# Altium schematic symbol library Schlib2.SchLib: 92 symbols (part 2 of 4)
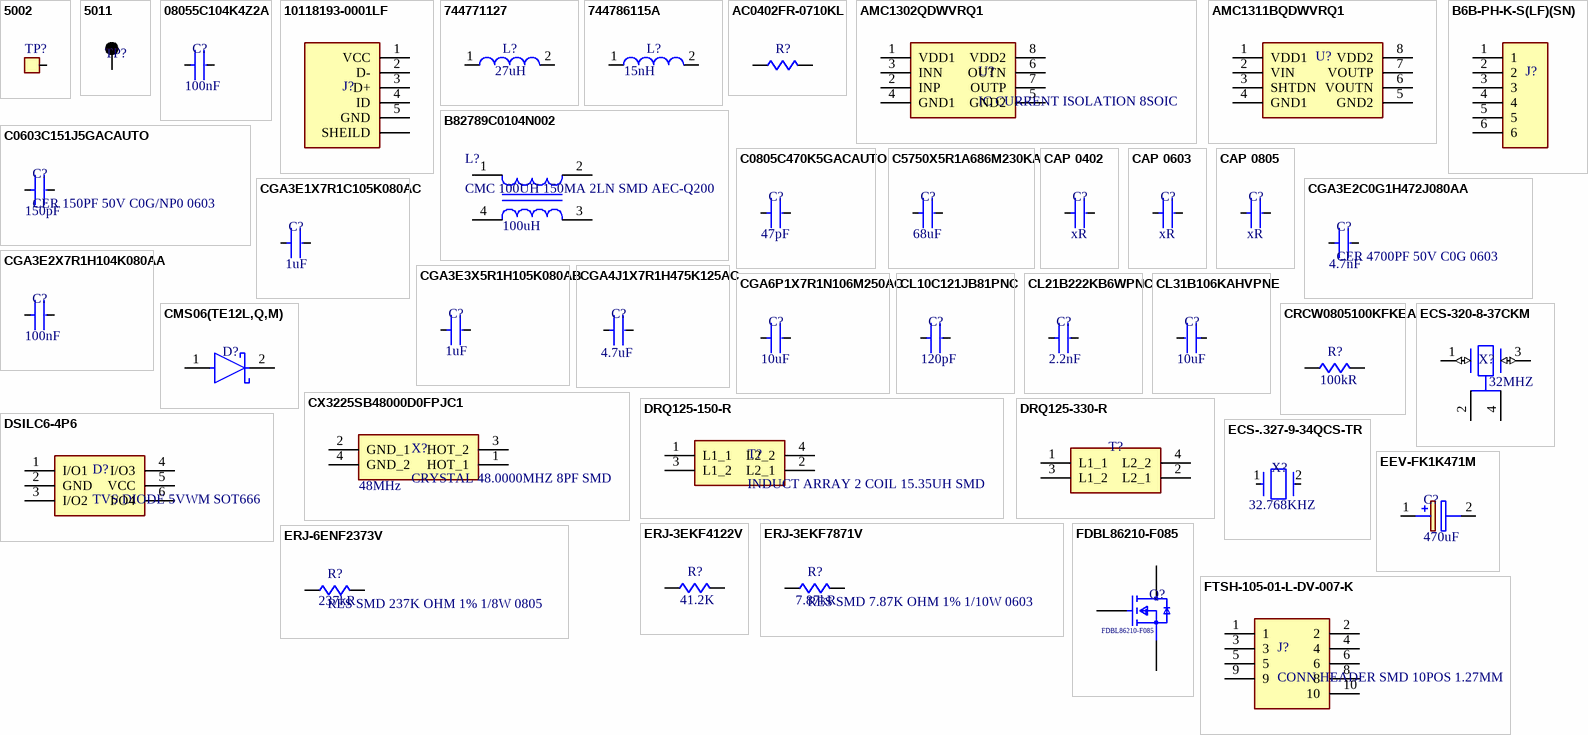
[diagram p3: symbols 5002 to FTSH-105-01-L-DV-007-K]

## DRQ125-330-R
designator T?, comment INDUCT ARRAY 2 COIL 33.74UH SMD  (value not drawn)
General Purpose Inductor; Manufacturer: Eaton Bussmann; Manufacturer Part Number: DRQ125-330-R; Manufacturer Series: DRQ; Supplier: Digi-Key; Supplier Part Number: 513-1292-1-ND; RoHS: No; Category: Fixed Inductors; Stock: 6739; Pricing: 1=1.55, 10=1.441, 25=1.33, 50=1.1084, 100=1.042, 250=0.93112 (USD); Inductor Type: GENERAL PURPOSE INDUCTOR; ComponentLink1URL: https://datasheet.ciiva.com:443/pdfs/VipMasterIC/IC/COIL/COIL-S-A0000009042/COIL-S-A0000009042-1.pdf?src-supplier=IHS+Markit; ComponentLink1Description: https://datasheet.ciiva.com:443/pdfs/VipMasterIC/IC/COIL/COIL-S-A0000009042/COIL-S-A0000009042-1.pdf?src-supplier=IHS+Markit; ComponentLink2URL: https://datasheet.ciiva.com/30154/89bus-elx-ds-4311-drq-se-30154698.pdf?src-supplier=Onlinecomponents.com; ComponentLink2Description: https://datasheet.ciiva.com/30154/89bus-elx-ds-4311-drq-se-30154698.pdf?src-supplier=Onlinecomponents.com; ComponentLink3URL: https://datasheet.ciiva.com/16291/bus-elx-ds-4311-drq-series-16291487.pdf?src-supplier=Future+Electronics; ComponentLink3Description: https://datasheet.ciiva.com/16291/bus-elx-ds-4311-drq-series-16291487.pdf?src-supplier=Future+Electronics; ComponentLink4URL: https://datasheet.ciiva.com/17113/70037884-17113355.pdf?src-supplier=Allied+Electronics; ComponentLink4Description: https://datasheet.ciiva.com/17113/70037884-17113355.pdf?src-supplier=Allied+Electronics; ComponentLink5URL: https://datasheet.ciiva.com/16291/bus-elx-ds-4311-drq-series-16291484.pdf?src-supplier=Future+Electronics; ComponentLink5Description: https://datasheet.ciiva.com/16291/bus-elx-ds-4311-drq-series-16291484.pdf?src-supplier=Future+Electronics; ComponentLink6URL: https://datasheet.ciiva.com/30234/89bus-elx-ds-4311-drq-se-30234907.pdf?src-supplier=Onlinecomponents.com; ComponentLink6Description: https://datasheet.ciiva.com/30234/89bus-elx-ds-4311-drq-se-30234907.pdf?src-supplier=Onlinecomponents.com; ComponentLink7URL: https://datasheet.ciiva.com/17113/70037884-17113358.pdf?src-supplier=Allied+Electronics; ComponentLink7Description: https://datasheet.ciiva.com/17113/70037884-17113358.pdf?src-supplier=Allied+Electronics
footprint DRQ125330R
pins: 1 L1_1, 2 L2_1, 3 L1_2, 4 L2_2

## DSILC6-4P6
designator D?, comment TVS DIODE 5VWM SOT666
Manufacturer: STMicroelectronics; Manufacturer Part Number: DSILC6-4P6; Direction: Unidirectional; Value: 2.5pF; Operating Supply Voltage: 5V; Max Surge Current: 7A; Reverse Breakdown Voltage: 6V; Number of Elements: 1; Number of Channels: 4; Peak Pulse Power: 120W; Power Line Protection: Yes; Leakage Current: 500nA; Test Current: 1mA; Peak Pulse Current: 5A; Max Power Dissipation: 90W; Supplier: Digi-Key; Supplier Part Number: 497-5544-1-ND; RoHS: Yes; Category: TVS Diodes; Stock: 53924; Pricing: 1=0.95, 10=0.849, 100=0.6621, 500=0.54698, 1000=0.43183 (USD); Mounting Technology: Surface Mount; Case/Package: SOT-666; Pins: 6; Min Operating Temperature: -55°C; Max Operating Temperature: 125°C; Package Quantity: 3000; Packaging: Tape and Reel; Reverse Standoff Voltage: 5V; Min Breakdown Voltage: 6V; Polarity: Unidirectional; Breakdown Voltage: 6V; Termination: SMD/SMT; ESD Protection: Yes; Max Reverse Leakage Current: 500nA; Max Breakdown Voltage: 6V; Voltage Rating (DC): 6V; Power Rating: 120W; Series: DSI; Number of Unidirectional Channels: 4; Length: 1.7mm; Width: 1.3mm; Height: 0.6mm; Depth: 1.3mm; Radiation Hardening: No; Reach SVHC Compliant: No; Lead Free: Lead Free; RoHS Compliant: Yes; ComponentLink1URL: https://datasheet.ciiva.com/4511/cd00130230-99038-4511753.pdf?src-supplier=Mouser; ComponentLink1Description: https://datasheet.ciiva.com/4511/cd00130230-99038-4511753.pdf?src-supplier=Mouser; ComponentLink2URL: https://datasheet.ciiva.com/15143/getdatasheetpartid-65137-15143194.pdf?src-supplier=Verical; ComponentLink2Description: https://datasheet.ciiva.com/15143/getdatasheetpartid-65137-15143194.pdf?src-supplier=Verical; ComponentLink3URL: https://datasheet.ciiva.com/338/cd00130230-338497.pdf?src-supplier=Digi-Key; ComponentLink3Description: https://datasheet.ciiva.com/338/cd00130230-338497.pdf?src-supplier=Digi-Key; ComponentLink4URL: https://datasheet.ciiva.com/338/cd00130230-338496.pdf?src-supplier=Digi-Key; ComponentLink4Description: https://datasheet.ciiva.com/338/cd00130230-338496.pdf?src-supplier=Digi-Key; ComponentLink5URL: https://datasheet.ciiva.com/338/cd00130230-338498.pdf?src-supplier=Digi-Key; ComponentLink5Description: https://datasheet.ciiva.com/338/cd00130230-338498.pdf?src-supplier=Digi-Key; ComponentLink6URL: https://datasheet.ciiva.com/16495/cd00130230-16495053.pdf?src-supplier=Future+Electronics; ComponentLink6Description: https://datasheet.ciiva.com/16495/cd00130230-16495053.pdf?src-supplier=Future+Electronics
footprint SOTFL50P160X60-6N
footprint FP-SOT-666-MFG - duplicate
pins: 1 I/O1, 2 GND, 3 I/O2, 4 I/O3, 5 VCC, 6 I/O4

## ECS-320-8-37CKM
designator X?, comment value 32MHZ  (hidden comment: CRYSTAL 32.0000MHZ 8PF SMD)
Manufacturer: ECS International; Manufacturer Part Number: ECS-320-8-37CKM; Supplier: Digi-Key; Supplier Part Number: XC1547CT-ND; RoHS: Yes; Category: Crystals; Stock: 683720; Pricing: 1=0.92, 10=0.813, 50=0.76, 100=0.6716, 500=0.63624 (USD); ComponentLink1URL: https://datasheet.ciiva.com/854/ecx-1637-854098.pdf?src-supplier=Digi-Key; ComponentLink1Description: https://datasheet.ciiva.com/854/ecx-1637-854098.pdf?src-supplier=Digi-Key; ComponentLink2URL: https://datasheet.ciiva.com/854/ecx-1637-854099.pdf?src-supplier=Digi-Key; ComponentLink2Description: https://datasheet.ciiva.com/854/ecx-1637-854099.pdf?src-supplier=Digi-Key; ComponentLink3URL: https://datasheet.ciiva.com/854/ecx-1637-854100.pdf?src-supplier=Digi-Key; ComponentLink3Description: https://datasheet.ciiva.com/854/ecx-1637-854100.pdf?src-supplier=Digi-Key
footprint FP-ECS-320-8-37CKM-MFG
pins: 1 In/Out (io), 2 Gnd (power), 3 Out/In (io), 4 Gnd (power)

## ECS-.327-9-34QCS-TR
designator X?  value 32.768KHZ  (hidden comment: ECS-.327-9-34QCS-TR)
CRYSTAL 32.768KHZ 9PF SMD; Manufacturer: ECS International; Supplier: Digi-Key; Supplier Part Number: XC2160CT-ND; Manufacturer Part Number: ECS-.327-9-34QCS-TR; RoHS: Yes; Category: Crystals; Stock: 10283; Pricing: 1=1.12, 10=0.99, 50=0.9252, 100=0.8175, 500=0.7745, 1000=0.64542 (USD); ComponentLink1URL: http://www.ecsxtal.com/store/pdf/partnumber4.pdf?src-supplier=Digi-Key; ComponentLink1Description: http://www.ecsxtal.com/store/pdf/partnumber4.pdf?src-supplier=Digi-Key; ComponentLink2URL: https://www.ecsxtal.com/store/pdf/ECX-34Q.pdf?src-supplier=Digi-Key; ComponentLink2Description: https://www.ecsxtal.com/store/pdf/ECX-34Q.pdf?src-supplier=Digi-Key
footprint FP-ECX-34Q-MFG
pins: 1 In/Out, 2 Out/In

## EEV-FK1K471M
designator C?, comment value 470uF  (hidden comment: CAP ALUM 470UF 20% 80V SMD)
Manufacturer: Panasonic; Manufacturer Part Number: EEV-FK1K471M; Dielectric Material: Aluminium; Polarity: Polarized; Leakage Current: 376uA; Ripple Current: 687.75mA; Tan Delta: 0.08; Reference Standard: AEC-Q200; Supplier: Digi-Key; Supplier Part Number: PCE3496CT-ND; RoHS: Yes; Category: Aluminum Electrolytic Capacitors; Stock: 7035; Pricing: 1=2.41, 10=1.947, 50=1.6988 (USD); Mounting Technology: Surface Mount; Pins: 2; Case/Package: 7575; Min Operating Temperature: -55°C; Max Operating Temperature: 105°C; Capacitor Type: Aluminium; Tolerance  (fill in as +-): 20%; Package Style: SMTMeter; Packaging: Tape and Reel; Tolerance (fill in as +-): 20%; Rated DC Voltage (URdc): 80V; Termination: Flat; Length: 21mm; Width: 19mm; Height: 16.5mm; Reach SVHC Compliant: Yes; RoHS Compliant: Yes; ComponentLink1URL: https://datasheet.ciiva.com:443/pdfs/VipMasterIC/IC/PANA/PANA-S-A0009782343/PANA-S-A0009782343-1.pdf?src-supplier=IHS+Markit; ComponentLink1Description: https://datasheet.ciiva.com:443/pdfs/VipMasterIC/IC/PANA/PANA-S-A0009782343/PANA-S-A0009782343-1.pdf?src-supplier=IHS+Markit; ComponentLink2URL: https://datasheet.ciiva.com/14606/70258115-14606333.pdf?src-supplier=Allied+Electronics; ComponentLink2Description: https://datasheet.ciiva.com/14606/70258115-14606333.pdf?src-supplier=Allied+Electronics; ComponentLink3URL: https://datasheet.ciiva.com/43485/1676921-43485532.pdf?src-supplier=Farnell; ComponentLink3Description: https://datasheet.ciiva.com/43485/1676921-43485532.pdf?src-supplier=Farnell; ComponentLink4URL: https://datasheet.ciiva.com/2984/aba0000ce120-2984088.pdf?src-supplier=Avnet; ComponentLink4Description: https://datasheet.ciiva.com/2984/aba0000ce120-2984088.pdf?src-supplier=Avnet; ComponentLink5URL: https://datasheet.ciiva.com/30158/eev-fkseries-30158795.pdf?src-supplier=Onlinecomponents.com; ComponentLink5Description: https://datasheet.ciiva.com/30158/eev-fkseries-30158795.pdf?src-supplier=Onlinecomponents.com; ComponentLink6URL: https://datasheet.ciiva.com/14603/70258115-14603897.pdf?src-supplier=Allied+Electronics; ComponentLink6Description: https://datasheet.ciiva.com/14603/70258115-14603897.pdf?src-supplier=Allied+Electronics; ComponentLink7URL: https://datasheet.ciiva.com/48483/aba0000ce120-48483340.pdf?src-supplier=Avnet; ComponentLink7Description: https://datasheet.ciiva.com/48483/aba0000ce120-48483340.pdf?src-supplier=Avnet
footprint EEEFK0J103SM
pins: 1 +, 2 -

## ERJ-3EKF4122V
designator R?, comment value 41.2K  (hidden comment: RES SMD 41.2K OHM 1% 1/10W 0603)
Manufacturer: Panasonic; Manufacturer Part Number: ERJ-3EKF4122V; Supplier: Digi-Key; Supplier Part Number: P41.2KHCT-ND; RoHS: Yes; Category: Chip SMD Resistors; Stock: 1049310; Pricing: 1=0.1, 10=0.046, 50=0.0256, 100=0.0188, 500=0.01148, 1000=0.00845 (USD); ComponentLink1URL: https://datasheet.ciiva.com/24025/aoa0000ce2-24025577.pdf?src-supplier=Mouser; ComponentLink1Description: https://datasheet.ciiva.com/24025/aoa0000ce2-24025577.pdf?src-supplier=Mouser; ComponentLink2URL: https://datasheet.ciiva.com/48531/aoa0000ce2-48531038.pdf?src-supplier=Avnet; ComponentLink2Description: https://datasheet.ciiva.com/48531/aoa0000ce2-48531038.pdf?src-supplier=Avnet; ComponentLink3URL: https://datasheet.ciiva.com/9117/aoa0000ce2-9117288.pdf?src-supplier=Avnet; ComponentLink3Description: https://datasheet.ciiva.com/9117/aoa0000ce2-9117288.pdf?src-supplier=Avnet; ComponentLink4URL: https://datasheet.ciiva.com/28672/1678782-28672360.pdf?src-supplier=Element14; ComponentLink4Description: https://datasheet.ciiva.com/28672/1678782-28672360.pdf?src-supplier=Element14; ComponentLink5URL: https://datasheet.ciiva.com/30231/aoa0000ce2-30231797.pdf?src-supplier=Onlinecomponents.com; ComponentLink5Description: https://datasheet.ciiva.com/30231/aoa0000ce2-30231797.pdf?src-supplier=Onlinecomponents.com; ComponentLink6URL: https://datasheet.ciiva.com/16788/70260748-16788157.pdf?src-supplier=Allied+Electronics; ComponentLink6Description: https://datasheet.ciiva.com/16788/70260748-16788157.pdf?src-supplier=Allied+Electronics
footprint FP-RMCF0603-IPC_C
pins: 1, 2

## ERJ-3EKF7871V
designator R?, comment RES SMD 7.87K OHM 1% 1/10W 0603  value 7.87kR
Manufacturer: Panasonic; Manufacturer Part Number: ERJ-3EKF7871V; Power: 100mW; Rated Temperature: 70°C; Temperature Coefficient: 100ppm/°C; Working Voltage: 75V; Package Height: 0.45mm; Package Length: 1.6mm; Package Width: 0.8mm; Reference Standard: AEC-Q200; Supplier: Digi-Key; Supplier Part Number: P7.87KHCT-ND; RoHS: Yes; Category: Chip SMD Resistors; Stock: 113983; Pricing: 1=0.1, 10=0.046, 50=0.0256, 100=0.0188, 500=0.01148, 1000=0.00845 (USD); Mounting Technology: Surface Mount; Pins: 2; Package Shape: Rectangular; Case/Package: 0603; Terminal Finish: Nickel; Min Operating Temperature: -55°C; Max Operating Temperature: 155°C; Tolerance: 1%; JESD-609 Code: e3; Resistor Type: FIXED RESISTOR; Construction: Rectangular; Package Style: SMTMeter; Packaging: Tape and Reel; Technology: METAL GLAZE/THICK FILM; Termination: Wraparound; Reach SVHC Compliant: Yes; RoHS Compliant: Yes; ComponentLink1URL: https://datasheet.ciiva.com:443/pdfs/VipMasterIC/IC/PANA/PANA-S-A0009889626/PANA-S-A0009889626-1.pdf?src-supplier=IHS+Markit; ComponentLink1Description: https://datasheet.ciiva.com:443/pdfs/VipMasterIC/IC/PANA/PANA-S-A0009889626/PANA-S-A0009889626-1.pdf?src-supplier=IHS+Markit; ComponentLink2URL: https://datasheet.ciiva.com/28563/1678782-28563593.pdf?src-supplier=Element14; ComponentLink2Description: https://datasheet.ciiva.com/28563/1678782-28563593.pdf?src-supplier=Element14; ComponentLink3URL: https://datasheet.ciiva.com/48531/aoa0000ce2-48531919.pdf?src-supplier=Avnet; ComponentLink3Description: https://datasheet.ciiva.com/48531/aoa0000ce2-48531919.pdf?src-supplier=Avnet; ComponentLink4URL: https://datasheet.ciiva.com/30170/aoa0000ce2-30170856.pdf?src-supplier=Onlinecomponents.com; ComponentLink4Description: https://datasheet.ciiva.com/30170/aoa0000ce2-30170856.pdf?src-supplier=Onlinecomponents.com; ComponentLink5URL: https://datasheet.ciiva.com/5974/426256-5974536.pdf?src-supplier=Farnell; ComponentLink5Description: https://datasheet.ciiva.com/5974/426256-5974536.pdf?src-supplier=Farnell; ComponentLink6URL: https://datasheet.ciiva.com/46377/426256-46377321.pdf?src-supplier=Element14; ComponentLink6Description: https://datasheet.ciiva.com/46377/426256-46377321.pdf?src-supplier=Element14; ComponentLink7URL: https://datasheet.ciiva.com/24164/aoa0000ce2-24164943.pdf?src-supplier=Mouser; ComponentLink7Description: https://datasheet.ciiva.com/24164/aoa0000ce2-24164943.pdf?src-supplier=Mouser; ComponentLink8URL: https://datasheet.ciiva.com/16759/70260748-16759401.pdf?src-supplier=Allied+Electronics; ComponentLink8Description: https://datasheet.ciiva.com/16759/70260748-16759401.pdf?src-supplier=Allied+Electronics; ComponentLink9URL: https://datasheet.ciiva.com/16759/70260748-16759767.pdf?src-supplier=Allied+Electronics; ComponentLink9Description: https://datasheet.ciiva.com/16759/70260748-16759767.pdf?src-supplier=Allied+Electronics; ComponentLink10URL: https://datasheet.ciiva.com/9117/aoa0000ce2-9117165.pdf?src-supplier=Avnet; ComponentLink10Description: https://datasheet.ciiva.com/9117/aoa0000ce2-9117165.pdf?src-supplier=Avnet
footprint FP-RMCF0603-IPC_C
pins: 1, 2

## ERJ-6ENF2373V
designator R?, comment RES SMD 237K OHM 1% 1/8W 0805  value 237kR
RES SMD 237K OHM 1% 1/8W 0805, Thick Film; Manufacturer: Panasonic; Manufacturer Part Number: ERJ-6ENF2373V; Power: 125mW; Rated Temperature: 70°C; Temperature Coefficient: 100ppm/°C; Working Voltage: 150V; Package Height: 0.6mm; Package Length: 2mm; Package Width: 1.25mm; Reference Standard: AEC-Q200; Dielectric Material: Ceramic; Multilayer: Yes; Tolerance  (fill in as +-): 10%; Rated DC Voltage (URdc): 50V; Temperature Characteristics Code: X7R; Supplier: Digi-Key; Supplier Part Number: P237KCCT-ND; RoHS: Yes; Category: Chip SMD Resistors; Stock: 18912; Pricing: 1=0.1, 10=0.086, 50=0.0462, 100=0.033, 500=0.02046, 1000=0.01452 (USD); Mounting Technology: Surface Mount; Pins: 2; Package Shape: Rectangular; Case/Package: 0805; Terminal Finish: Nickel; Min Operating Temperature: -55°C; Max Operating Temperature: 155°C; Tolerance: 1%; JESD-609 Code: e3; Resistor Type: FIXED RESISTOR; Construction: Rectangular; Package Style: SMTMeter; Packaging: Tape and Reel; Technology: METAL GLAZE/THICK FILM; Termination: Wraparound; Reach SVHC Compliant: Yes; RoHS Compliant: Yes; ComponentLink1URL: https://datasheet.ciiva.com:443/pdfs/VipMasterIC/IC/PANA/PANA-S-A0009889626/PANA-S-A0009889626-1.pdf?src-supplier=IHS+Markit; ComponentLink1Description: https://datasheet.ciiva.com:443/pdfs/VipMasterIC/IC/PANA/PANA-S-A0009889626/PANA-S-A0009889626-1.pdf?src-supplier=IHS+Markit; ComponentLink2URL: https://datasheet.ciiva.com/46420/1678782-46420316.pdf?src-supplier=Element14; ComponentLink2Description: https://datasheet.ciiva.com/46420/1678782-46420316.pdf?src-supplier=Element14; ComponentLink3URL: https://datasheet.ciiva.com/30140/aoa0000ce2-30140440.pdf?src-supplier=Onlinecomponents.com; ComponentLink3Description: https://datasheet.ciiva.com/30140/aoa0000ce2-30140440.pdf?src-supplier=Onlinecomponents.com; Capacitor Type: Ceramic; Tolerance (fill in as +-): 10%; Length: 1mm; Width: 0.5mm; Height: 0.5mm; ComponentLink4URL: https://datasheet.ciiva.com:443/pdfs/VipMasterIC/IC/MURE/MURE-S-A0004370842/MURE-S-A0004373045-1.pdf?src-supplier=IHS+Markit; ComponentLink4Description: https://datasheet.ciiva.com:443/pdfs/VipMasterIC/IC/MURE/MURE-S-A0004370842/MURE-S-A0004373045-1.pdf?src-supplier=IHS+Markit; ComponentLink5URL: http://search.murata.co.jp/Ceramy/image/img/A01X/G101/ENG/GCM155R71H122KA37-01.pdf?src-supplier=Digi-Key; ComponentLink5Description: http://search.murata.co.jp/Ceramy/image/img/A01X/G101/ENG/GCM155R71H122KA37-01.pdf?src-supplier=Digi-Key
footprint FP-CRCW0805-e3-IPC_C
pins: 1, 2

## FDBL86210-F085
designator Q?, comment Manufacturer Part Number: FDBL86210-F085  (hidden comment: N-CH 150V 169A 8HPSOF)
Manufacturer: ON Semiconductor; Polarity/Channel Type: N-CHANNEL; FET Technology: METAL-OXIDE SEMICONDUCTOR; Power Dissipation-Max (Abs): 500W; Supplier: Digi-Key; Supplier Part Number: FDBL86210-F085CT-ND; RoHS: Yes; Category: MOSFETs; Stock: 9997; Pricing: 1=6.08, 10=5.463, 100=4.4761, 500=3.81042, 1000=3.2136 (USD); Terminal Finish: Tin; Max Operating Temperature: 175°C; Drain Current-Max (Abs) (ID): 169A; Moisture Sensitivity Level: 1; Surface Mount: Yes; JESD-609 Code: e3; RoHS Compliant: Yes; Reach SVHC Compliant: No; ComponentLink1URL: https://datasheet.ciiva.com:443/pdfs/VipMasterIC/IC/ONSM/ONSM-S-A0003157691/ONSM-S-A0003586469-1.pdf?src-supplier=IHS+Markit; ComponentLink1Description: https://datasheet.ciiva.com:443/pdfs/VipMasterIC/IC/ONSM/ONSM-S-A0003157691/ONSM-S-A0003586469-1.pdf?src-supplier=IHS+Markit; ComponentLink2URL: http://www.farnell.com/datasheets/2859346.pdf?src-supplier=Farnell; ComponentLink2Description: http://www.farnell.com/datasheets/2859346.pdf?src-supplier=Farnell; ComponentLink3URL: http://www.onsemi.com/pub/Collateral/FDBL86210_F085-D.PDF?src-supplier=Digi-Key; ComponentLink3Description: http://www.onsemi.com/pub/Collateral/FDBL86210_F085-D.PDF?src-supplier=Digi-Key; ComponentLink4URL: http://www.farnell.com/datasheets/2859346.pdf?src-supplier=Element14; ComponentLink4Description: http://www.farnell.com/datasheets/2859346.pdf?src-supplier=Element14; ComponentLink5URL: http://www.farnell.com/datasheets/2859346.pdf?src-supplier=Newark; ComponentLink5Description: http://www.farnell.com/datasheets/2859346.pdf?src-supplier=Newark
footprint FP-100CU-MFG
pins: 1 G, 2 S, 3 S, 4 S, 5 S, 6 S, 7 S, 8 S, 9 D

## FTSH-105-01-L-DV-007-K
designator J?, comment CONN HEADER SMD 10POS 1.27MM
footprint FTSH10501LDV007K
pins: 1, 2, 3, 4, 5, 6, 8, 9, 10

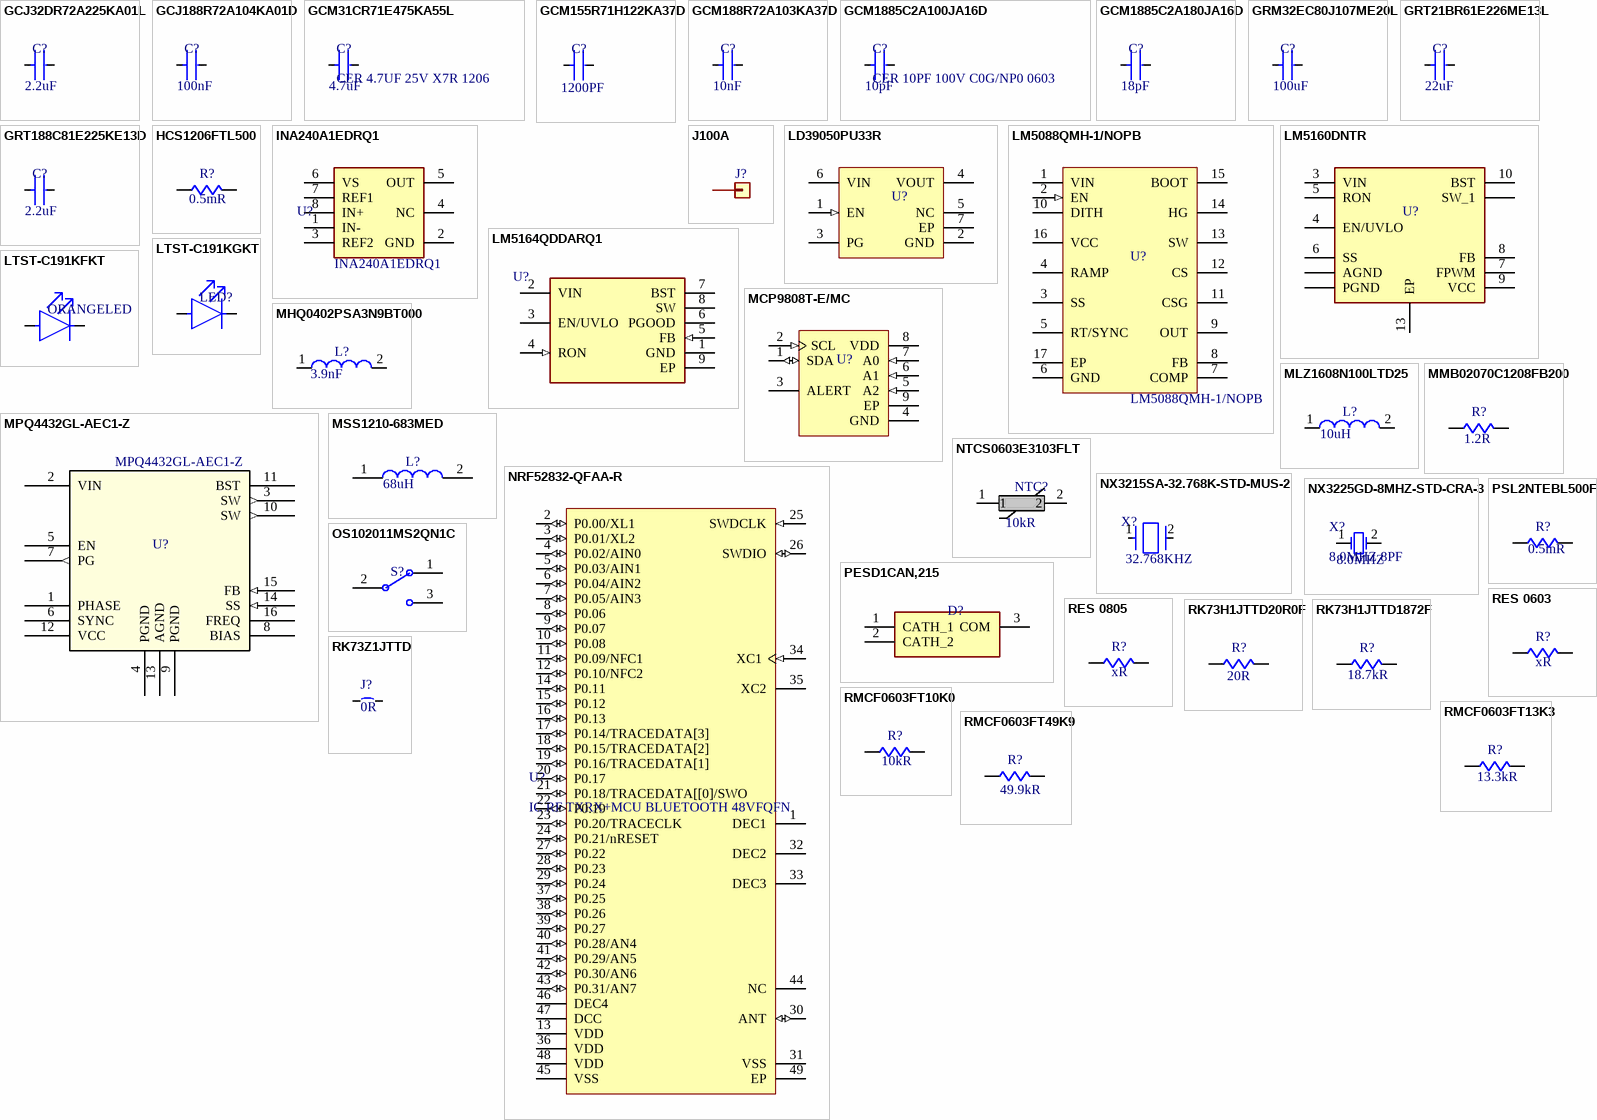
[diagram p1: symbols GCJ32DR72A225KA01L to RMCF0603FT49K9]

## GCJ32DR72A225KA01L
designator C?, comment value 2.2uF  (hidden comment: SCER 2.2UF 100V X7R 1210)
CER 2.2UF 100V X7R 1210; Manufacturer: Murata; Manufacturer Part Number: GCJ32DR72A225KA01L; Dielectric Material: Ceramic; Multilayer: Yes; Tolerance  (fill in as +-): 10%; Reference Standard: AEC-Q200; Supplier: Digi-Key; Supplier Part Number: 490-5840-1-ND; RoHS: Yes; Category: Ceramic Capacitors; Stock: 318636; Pricing: 1=1.74, 10=1.375, 50=1.1914, 100=1.031, 500=0.779 (USD); Mounting Technology: Surface Mount; Pins: 2; Package Shape: Rectangular; Case/Package: 1210; Terminal Finish: Nickel; Min Operating Temperature: -55°C; Max Operating Temperature: 125°C; JESD-609 Code: e3; Capacitor Type: Ceramic; Package Style: SMTMeter; Packaging: Tape and Reel; Tolerance (fill in as +-): 10%; Rated DC Voltage (URdc): 100V; Temperature Characteristics Code: X7R; Termination: Wraparound; Length: 3.2mm; Width: 2.5mm; Height: 2mm; Reach SVHC Compliant: Yes; RoHS Compliant: Yes; ComponentLink1URL: https://psearch.en.murata.com:443/capacitor/product/GCJ32DR72A225KA01%23.pdf?src-supplier=IHS+Markit; ComponentLink1Description: https://psearch.en.murata.com:443/capacitor/product/GCJ32DR72A225KA01%23.pdf?src-supplier=IHS+Markit; ComponentLink2URL: https://datasheet.ciiva.com/175/s0717e-175728.pdf?src-supplier=Digi-Key; ComponentLink2Description: https://datasheet.ciiva.com/175/s0717e-175728.pdf?src-supplier=Digi-Key; ComponentLink3URL: https://datasheet.ciiva.com/175/s0717e-175727.pdf?src-supplier=Digi-Key; ComponentLink3Description: https://datasheet.ciiva.com/175/s0717e-175727.pdf?src-supplier=Digi-Key; ComponentLink4URL: https://datasheet.ciiva.com/175/s0717e-175729.pdf?src-supplier=Digi-Key; ComponentLink4Description: https://datasheet.ciiva.com/175/s0717e-175729.pdf?src-supplier=Digi-Key
footprint FP-GCJ32D-0_4-IPC_C
pins: 1, 2

## GCJ188R72A104KA01D
designator C?, comment value 100nF  (hidden comment: CER 0.1UF 100V X7R 0603)
Manufacturer: Murata; Manufacturer Part Number: GCJ188R72A104KA01D; Dielectric Material: Ceramic; Multilayer: Yes; Tolerance  (fill in as +-): 10%; Reference Standard: AEC-Q200; Supplier: Digi-Key; Supplier Part Number: 490-13420-1-ND; RoHS: Yes; Category: Ceramic Capacitors; Stock: 747319; Pricing: 1=0.2, 10=0.136, 50=0.0814, 100=0.0687, 500=0.047, 1000=0.04158 (USD); Mounting Technology: Surface Mount; Pins: 2; Package Shape: Rectangular; Case/Package: 0603; Terminal Finish: Nickel; Min Operating Temperature: -55°C; Max Operating Temperature: 125°C; JESD-609 Code: e3; Capacitor Type: Ceramic; Package Style: SMTMeter; Packaging: Tape and Reel; Tolerance (fill in as +-): 10%; Rated DC Voltage (URdc): 100V; Temperature Characteristics Code: X7R; Termination: Wraparound; Length: 1.6mm; Width: 0.8mm; Height: 0.8mm; Reach SVHC Compliant: Yes; RoHS Compliant: Yes; ComponentLink1URL: https://datasheet.ciiva.com:443/pdfs/VipMasterIC/IC/MURE/MURE-S-A0004365318/MURE-S-A0004369812-1.pdf?src-supplier=IHS+Markit; ComponentLink1Description: https://datasheet.ciiva.com:443/pdfs/VipMasterIC/IC/MURE/MURE-S-A0004365318/MURE-S-A0004369812-1.pdf?src-supplier=IHS+Markit; ComponentLink2URL: http://search.murata.co.jp/Ceramy/image/img/A01X/partnumbering_e_02.pdf?src-supplier=Digi-Key; ComponentLink2Description: http://search.murata.co.jp/Ceramy/image/img/A01X/partnumbering_e_02.pdf?src-supplier=Digi-Key; ComponentLink3URL: https://www.murata.com/~/media/webrenewal/support/library/catalog/products/capacitor/mlcc/c03e.ashx?la=en-us&src-supplier=Digi-Key; ComponentLink3Description: https://www.murata.com/~/media/webrenewal/support/library/catalog/products/capacitor/mlcc/c03e.ashx?la=en-us&src-supplier=Digi-Key
footprint FP-CGA3E-0_3-0_1-IPC_C
pins: 1, 2

## GCM31CR71E475KA55L
designator C?, comment CER 4.7UF 25V X7R 1206  value 4.7uF
Manufacturer: Murata; Manufacturer Part Number: GCM31CR71E475KA55L; Dielectric Material: Ceramic; Multilayer: Yes; Tolerance  (fill in as +-): 10%; Reference Standard: AEC-Q200; Supplier: Digi-Key; Supplier Part Number: 490-4794-1-ND; RoHS: Yes; Category: Ceramic Capacitors; Stock: 351129; Pricing: 1=0.33, 10=0.226, 50=0.1584, 100=0.1357, 500=0.1018, 1000=0.08597 (USD); Mounting Technology: Surface Mount; Pins: 2; Package Shape: Rectangular; Case/Package: 1206; Terminal Finish: Nickel; Min Operating Temperature: -55°C; Max Operating Temperature: 125°C; JESD-609 Code: e3; Capacitor Type: Ceramic; Package Style: SMTMeter; Packaging: Tape and Reel; Tolerance (fill in as +-): 10%; Rated DC Voltage (URdc): 25V; Temperature Characteristics Code: X7R; Termination: Wraparound; Length: 3.2mm; Width: 1.6mm; Height: 1.8mm; Reach SVHC Compliant: Yes; RoHS Compliant: Yes; ComponentLink1URL: https://datasheet.ciiva.com:443/pdfs/VipMasterIC/IC/MURE/MURE-S-A0004442191/MURE-S-A0004445513-1.pdf?src-supplier=IHS+Markit; ComponentLink1Description: https://datasheet.ciiva.com:443/pdfs/VipMasterIC/IC/MURE/MURE-S-A0004442191/MURE-S-A0004445513-1.pdf?src-supplier=IHS+Markit; ComponentLink2URL: https://datasheet.ciiva.com/140/product-140163.pdf?src-supplier=Digi-Key; ComponentLink2Description: https://datasheet.ciiva.com/140/product-140163.pdf?src-supplier=Digi-Key; ComponentLink3URL: https://datasheet.ciiva.com/18183/getdatasheetpartid-255795-18183748.pdf?src-supplier=Verical; ComponentLink3Description: https://datasheet.ciiva.com/18183/getdatasheetpartid-255795-18183748.pdf?src-supplier=Verical; ComponentLink4URL: https://datasheet.ciiva.com/11787/0900766b80ef92d0-11787096.pdf?src-supplier=Rs; ComponentLink4Description: https://datasheet.ciiva.com/11787/0900766b80ef92d0-11787096.pdf?src-supplier=Rs; ComponentLink5URL: https://datasheet.ciiva.com/140/product-140162.pdf?src-supplier=Digi-Key; ComponentLink5Description: https://datasheet.ciiva.com/140/product-140162.pdf?src-supplier=Digi-Key; ComponentLink6URL: https://datasheet.ciiva.com/140/product-140164.pdf?src-supplier=Digi-Key; ComponentLink6Description: https://datasheet.ciiva.com/140/product-140164.pdf?src-supplier=Digi-Key; ComponentLink7URL: https://datasheet.ciiva.com/11613/product-11613353.pdf?src-supplier=Avnet; ComponentLink7Description: https://datasheet.ciiva.com/11613/product-11613353.pdf?src-supplier=Avnet; ComponentLink8URL: https://datasheet.ciiva.com:443/pdfs/VipMasterIC/IC/TDKC/TDKC-S-A0008953915/TDKC-S-A0008953915-1.pdf?src-supplier=IHS+Markit; ComponentLink8Description: https://datasheet.ciiva.com:443/pdfs/VipMasterIC/IC/TDKC/TDKC-S-A0008953915/TDKC-S-A0008953915-1.pdf?src-supplier=IHS+Markit; ComponentLink9URL: https://product.tdk.com/info/en/catalog/datasheets/mlcc_automotive_general_en.pdf?src-supplier=Digi-Key; ComponentLink9Description: https://product.tdk.com/info/en/catalog/datasheets/mlcc_automotive_general_en.pdf?src-supplier=Digi-Key
footprint FP-GCM31C-0_2-e0_3_0_8-IPC_C
pins: 1, 2

## GCM155R71H122KA37D
designator C?, comment value 1200PF  (hidden comment: CER 1200PF 50V X7R 0402)
footprint FP-GCM155-0_05-IPC_C
pins: 1, 2

## GCM188R72A103KA37D
designator C?, comment value 10nF  (hidden comment: CER 10000PF 100V X7R 0603)
Manufacturer: Murata; Manufacturer Part Number: GCM188R72A103KA37D; Dielectric Material: Ceramic; Multilayer: Yes; Tolerance  (fill in as +-): 10%; Reference Standard: AEC-Q200; Supplier: Digi-Key; Supplier Part Number: 490-4781-1-ND; RoHS: Yes; Category: Ceramic Capacitors; Stock: 8991008; Pricing: 1=0.1, 10=0.057, 50=0.031, 100=0.0252, 500=0.01802, 1000=0.01417 (USD); Mounting Technology: Surface Mount; Pins: 2; Package Shape: Rectangular; Case/Package: 0603; Terminal Finish: Nickel; Min Operating Temperature: -55°C; Max Operating Temperature: 125°C; JESD-609 Code: e3; Capacitor Type: Ceramic; Package Style: SMTMeter; Packaging: Tape and Reel; Tolerance (fill in as +-): 10%; Rated DC Voltage (URdc): 100V; Temperature Characteristics Code: X7R; Termination: Wraparound; Length: 1.6mm; Width: 0.8mm; Height: 0.9mm; Reach SVHC Compliant: Yes; RoHS Compliant: Yes; ComponentLink1URL: https://psearch.en.murata.com:443/capacitor/product/GCM188R72A103KA37%23.pdf?src-supplier=IHS+Markit; ComponentLink1Description: https://psearch.en.murata.com:443/capacitor/product/GCM188R72A103KA37%23.pdf?src-supplier=IHS+Markit; ComponentLink2URL: https://datasheet.ciiva.com/132/product-132908.pdf?src-supplier=Digi-Key; ComponentLink2Description: https://datasheet.ciiva.com/132/product-132908.pdf?src-supplier=Digi-Key; ComponentLink3URL: https://datasheet.ciiva.com/132/product-132907.pdf?src-supplier=Digi-Key; ComponentLink3Description: https://datasheet.ciiva.com/132/product-132907.pdf?src-supplier=Digi-Key; ComponentLink4URL: https://datasheet.ciiva.com/132/product-132909.pdf?src-supplier=Digi-Key; ComponentLink4Description: https://datasheet.ciiva.com/132/product-132909.pdf?src-supplier=Digi-Key; ComponentLink5URL: https://datasheet.ciiva.com/16497/product-16497251.pdf?src-supplier=Future+Electronics; ComponentLink5Description: https://datasheet.ciiva.com/16497/product-16497251.pdf?src-supplier=Future+Electronics; ComponentLink6URL: https://datasheet.ciiva.com/18183/getdatasheetpartid-178890-18183651.pdf?src-supplier=Verical; ComponentLink6Description: https://datasheet.ciiva.com/18183/getdatasheetpartid-178890-18183651.pdf?src-supplier=Verical; ComponentLink7URL: https://datasheet.ciiva.com/11786/0900766b80ef92d0-11786108.pdf?src-supplier=Rs; ComponentLink7Description: https://datasheet.ciiva.com/11786/0900766b80ef92d0-11786108.pdf?src-supplier=Rs; ComponentLink8URL: https://datasheet.ciiva.com/11619/product-11619719.pdf?src-supplier=Avnet; ComponentLink8Description: https://datasheet.ciiva.com/11619/product-11619719.pdf?src-supplier=Avnet
footprint FP-CGA3E-0_3-0_1-IPC_C
pins: 1, 2

## GCM1885C2A100JA16D
designator C?, comment CER 10PF 100V C0G/NP0 0603  value 10pF
Manufacturer: Murata; Manufacturer Part Number: GCM1885C2A100JA16D; Dielectric Material: Ceramic; Multilayer: Yes; Tolerance  (fill in as +-): 5%; Temperature Characteristics Code: C0G; Reference Standard: AEC-Q200; Supplier: Digi-Key; Supplier Part Number: 490-4770-1-ND; RoHS: Yes; Category: Ceramic Capacitors; Stock: 353737; Pricing: 1=0.11, 10=0.078, 50=0.0446, 100=0.0369, 500=0.02588, 1000=0.02142 (USD); Mounting Technology: Surface Mount; Pins: 2; Package Shape: Rectangular; Case/Package: 0603; Terminal Finish: Nickel; Min Operating Temperature: -55°C; Max Operating Temperature: 125°C; JESD-609 Code: e3; Capacitor Type: Ceramic; Package Style: SMTMeter; Packaging: Tape and Reel; Tolerance (fill in as +-): 5%; Rated DC Voltage (URdc): 100V; Termination: Wraparound; Length: 1.6mm; Width: 0.8mm; Height: 0.9mm; Reach SVHC Compliant: Yes; RoHS Compliant: Yes; ComponentLink1URL: https://datasheet.ciiva.com:443/pdfs/VipMasterIC/IC/MURE/MURE-S-A0004365318/MURE-S-A0004370306-1.pdf?src-supplier=IHS+Markit; ComponentLink1Description: https://datasheet.ciiva.com:443/pdfs/VipMasterIC/IC/MURE/MURE-S-A0004365318/MURE-S-A0004370306-1.pdf?src-supplier=IHS+Markit; ComponentLink2URL: https://datasheet.ciiva.com/133/product-133481.pdf?src-supplier=Digi-Key; ComponentLink2Description: https://datasheet.ciiva.com/133/product-133481.pdf?src-supplier=Digi-Key; ComponentLink3URL: https://datasheet.ciiva.com/133/product-133480.pdf?src-supplier=Digi-Key; ComponentLink3Description: https://datasheet.ciiva.com/133/product-133480.pdf?src-supplier=Digi-Key; ComponentLink4URL: https://datasheet.ciiva.com/133/product-133482.pdf?src-supplier=Digi-Key; ComponentLink4Description: https://datasheet.ciiva.com/133/product-133482.pdf?src-supplier=Digi-Key; ComponentLink5URL: https://datasheet.ciiva.com/18183/getdatasheetpartid-307287-18183583.pdf?src-supplier=Verical; ComponentLink5Description: https://datasheet.ciiva.com/18183/getdatasheetpartid-307287-18183583.pdf?src-supplier=Verical; ComponentLink6URL: https://datasheet.ciiva.com/11607/product-11607353.pdf?src-supplier=Avnet; ComponentLink6Description: https://datasheet.ciiva.com/11607/product-11607353.pdf?src-supplier=Avnet
footprint FP-GCM188-0_1-IPC_C
pins: 1, 2

## GCM1885C2A180JA16D
designator C?, comment value 18pF  (hidden comment: CER 18PF 100V C0G/NP0 0603)
Manufacturer: Murata; Manufacturer Part Number: GCM1885C2A180JA16D; Dielectric Material: Ceramic; Multilayer: Yes; Tolerance  (fill in as +-): 5%; Temperature Characteristics Code: C0G; Reference Standard: AEC-Q200; Supplier: Digi-Key; Supplier Part Number: 490-14762-1-ND; RoHS: Yes; Category: Ceramic Capacitors; Stock: 156983; Pricing: 1=0.11, 10=0.075, 50=0.0424, 100=0.0351, 500=0.02464, 1000=0.0204 (USD); Mounting Technology: Surface Mount; Pins: 2; Package Shape: Rectangular; Case/Package: 0603; Terminal Finish: Nickel; Min Operating Temperature: -55°C; Max Operating Temperature: 125°C; JESD-609 Code: e3; Capacitor Type: Ceramic; Package Style: SMTMeter; Packaging: Tape and Reel; Tolerance (fill in as +-): 5%; Rated DC Voltage (URdc): 100V; Termination: Wraparound; Length: 1.6mm; Width: 0.8mm; Height: 0.9mm; Reach SVHC Compliant: Yes; RoHS Compliant: Yes; ComponentLink1URL: https://datasheet.ciiva.com:443/pdfs/VipMasterIC/IC/MURE/MURE-S-A0004365318/MURE-S-A0004370475-1.pdf?src-supplier=IHS+Markit; ComponentLink1Description: https://datasheet.ciiva.com:443/pdfs/VipMasterIC/IC/MURE/MURE-S-A0004365318/MURE-S-A0004370475-1.pdf?src-supplier=IHS+Markit; ComponentLink2URL: https://datasheet.ciiva.com/11607/product-11607829.pdf?src-supplier=Avnet; ComponentLink2Description: https://datasheet.ciiva.com/11607/product-11607829.pdf?src-supplier=Avnet; ComponentLink3URL: https://datasheet.ciiva.com/165/s0717e-165190.pdf?src-supplier=Digi-Key; ComponentLink3Description: https://datasheet.ciiva.com/165/s0717e-165190.pdf?src-supplier=Digi-Key
footprint FP-GCM188-0_1-IPC_C
pins: 1, 2

## GRM32EC80J107ME20L
designator C?, comment value 100uF  (hidden comment: CAP CER 100UF 6.3V X6S 1210)
Manufacturer: Murata; Manufacturer Part Number: GRM32EC80J107ME20L; Dielectric Material: Ceramic; Multilayer: Yes; Tolerance  (fill in as +-): 20%; Supplier: Digi-Key; Supplier Part Number: 490-6533-1-ND; RoHS: Yes; Category: Ceramic Capacitors; Stock: 98662; Pricing: 1=1.54, 10=1.214, 50=1.0518, 100=0.9101, 500=0.68766 (USD); Mounting Technology: Surface Mount; Pins: 2; Package Shape: Rectangular; Case/Package: 1210; Terminal Finish: Nickel; Min Operating Temperature: -55°C; Max Operating Temperature: 105°C; JESD-609 Code: e3; Capacitor Type: Ceramic; Package Style: SMTMeter; Packaging: Tape and Reel; Tolerance (fill in as +-): 20%; Rated DC Voltage (URdc): 6.3V; Temperature Characteristics Code: X6S; Termination: Wraparound; Length: 3.2mm; Width: 2.5mm; Height: 2.5mm; Reach SVHC Compliant: Yes; RoHS Compliant: Yes; ComponentLink1URL: https://psearch.en.murata.com:443/capacitor/product/GRM32EC80J107ME20%23.pdf?src-supplier=IHS+Markit; ComponentLink1Description: https://psearch.en.murata.com:443/capacitor/product/GRM32EC80J107ME20%23.pdf?src-supplier=IHS+Markit; ComponentLink2URL: https://datasheet.ciiva.com/25613/0900766b81023a1e-25613145.pdf?src-supplier=Rs; ComponentLink2Description: https://datasheet.ciiva.com/25613/0900766b81023a1e-25613145.pdf?src-supplier=Rs; ComponentLink3URL: https://datasheet.ciiva.com/7719/1303574-7719173.pdf?src-supplier=Element14; ComponentLink3Description: https://datasheet.ciiva.com/7719/1303574-7719173.pdf?src-supplier=Element14; ComponentLink4URL: https://datasheet.ciiva.com/6264/partnumbering-e-01-6264536.pdf?src-supplier=Digi-Key; ComponentLink4Description: https://datasheet.ciiva.com/6264/partnumbering-e-01-6264536.pdf?src-supplier=Digi-Key; ComponentLink5URL: https://datasheet.ciiva.com/6264/partnumbering-e-01-6264535.pdf?src-supplier=Digi-Key; ComponentLink5Description: https://datasheet.ciiva.com/6264/partnumbering-e-01-6264535.pdf?src-supplier=Digi-Key; ComponentLink6URL: https://datasheet.ciiva.com/6264/partnumbering-e-01-6264537.pdf?src-supplier=Digi-Key; ComponentLink6Description: https://datasheet.ciiva.com/6264/partnumbering-e-01-6264537.pdf?src-supplier=Digi-Key
footprint CAP 1210_3225 - 2.5MM (Chip Capacitor, 2-Leads, Body 3.20x2.50mm, IPC Medium Density)
pins: 1, 2

## GRT21BR61E226ME13L
designator C?, comment value 22uF  (hidden comment: CER 22UF 25V X5R 0805)
Manufacturer: Murata; Manufacturer Part Number: GRT21BR61E226ME13L; Dielectric Material: Ceramic; Multilayer: Yes; Tolerance  (fill in as +-): 20%; Reference Standard: AEC-Q200; Supplier: Digi-Key; Supplier Part Number: 490-12389-1-ND; RoHS: Yes; Category: Ceramic Capacitors; Stock: 2041520; Pricing: 1=0.53, 10=0.376, 50=0.284, 100=0.2473, 500=0.18322, 1000=0.15573 (USD); Mounting Technology: Surface Mount; Pins: 2; Package Shape: Rectangular; Terminal Finish: Nickel; Case/Package: 0805; Min Operating Temperature: -55°C; Max Operating Temperature: 85°C; JESD-609 Code: e3; Capacitor Type: Ceramic; Packaging: Tape and Reel; Tolerance (fill in as +-): 20%; Rated DC Voltage (URdc): 25V; Temperature Characteristics Code: X5R; Termination: Wraparound; Reach SVHC Compliant: Yes; RoHS Compliant: Yes; ComponentLink1URL: https://datasheet.ciiva.com:443/pdfs/VipMasterIC/IC/MURE/MURE-S-A0004410517/MURE-S-A0004413512-1.pdf?src-supplier=IHS+Markit; ComponentLink1Description: https://datasheet.ciiva.com:443/pdfs/VipMasterIC/IC/MURE/MURE-S-A0004410517/MURE-S-A0004413512-1.pdf?src-supplier=IHS+Markit; ComponentLink2URL: http://search.murata.co.jp/Ceramy/image/img/A01X/G101/ENG/GRT21BR61E226ME13-01.pdf?src-supplier=Digi-Key; ComponentLink2Description: http://search.murata.co.jp/Ceramy/image/img/A01X/G101/ENG/GRT21BR61E226ME13-01.pdf?src-supplier=Digi-Key
footprint FP-CL21-IPC_C
pins: 1, 2

## GRT188C81E225KE13D
designator C?, comment value 2.2uF  (hidden comment: CER 2.2UF 25V X6S 0603)
Manufacturer: Murata; Manufacturer Part Number: GRT188C81E225KE13D; Dielectric Material: Ceramic; Multilayer: Yes; Tolerance  (fill in as +-): 10%; Reference Standard: AEC-Q200; Supplier: Digi-Key; Supplier Part Number: 490-12293-1-ND; RoHS: Yes; Category: Ceramic Capacitors; Stock: 90858; Pricing: 1=0.28, 10=0.19, 50=0.1264, 100=0.1075, 500=0.07588, 1000=0.06639 (USD); Mounting Technology: Surface Mount; Pins: 2; Package Shape: Rectangular; Case/Package: 0603; Terminal Finish: Nickel; Min Operating Temperature: -55°C; Max Operating Temperature: 105°C; JESD-609 Code: e3; Capacitor Type: Ceramic; Packaging: Tape and Reel; Tolerance (fill in as +-): 10%; Rated DC Voltage (URdc): 25V; Temperature Characteristics Code: X6S; Termination: Wraparound; Reach SVHC Compliant: Yes; RoHS Compliant: Yes; ComponentLink1URL: https://datasheet.ciiva.com:443/pdfs/VipMasterIC/IC/MURE/MURE-S-A0004410517/MURE-S-A0004413790-1.pdf?src-supplier=IHS+Markit; ComponentLink1Description: https://datasheet.ciiva.com:443/pdfs/VipMasterIC/IC/MURE/MURE-S-A0004410517/MURE-S-A0004413790-1.pdf?src-supplier=IHS+Markit; ComponentLink2URL: http://www.farnell.com/datasheets/2165949.pdf?src-supplier=Farnell; ComponentLink2Description: http://www.farnell.com/datasheets/2165949.pdf?src-supplier=Farnell; ComponentLink3URL: http://search.murata.co.jp/Ceramy/image/img/A01X/G101/ENG/GRT188C81E225KE13-01.pdf?src-supplier=Digi-Key; ComponentLink3Description: http://search.murata.co.jp/Ceramy/image/img/A01X/G101/ENG/GRT188C81E225KE13-01.pdf?src-supplier=Digi-Key
footprint FP-GRT188-0_2-IPC_A
pins: 1, 2

## HCS1206FTL500
designator R?, comment value 0.5mR  (hidden comment: RES 500 UOHM 1% 2W 1206 (3216 Metric))
footprint FP-RMCF1206-IPC_C
pins: 1, 2

## INA240A1EDRQ1
designator U?, comment Manufacturer Part Number: INA240A1EDRQ1  (hidden comment: IC CURRENT SENSE 1 CIRCUIT 8SOIC)
Manufacturer: Texas Instruments; Throw Configuration: ANALOG CIRCUIT; Supplier: Digi-Key; Supplier Part Number: 296-53152-1-ND; RoHS: Yes; Category: Amplifiers - Op Amps, Buffer, Instrumentation; Stock: 7107; Pricing: 1=4.22, 10=3.79, 25=3.5828, 100=3.1051, 250=2.94592, 500=2.64336, 1000=2.22933 (USD); Reach SVHC Compliant: Yes; RoHS Compliant: Yes; ComponentLink1URL: https://www.ti.com:443/lit/ds/symlink/ina240-q1.pdf?src-supplier=IHS+Markit; ComponentLink1Description: https://www.ti.com:443/lit/ds/symlink/ina240-q1.pdf?src-supplier=IHS+Markit
footprint FP-D0008A-IPC_C
pins: 1 IN- (hiz), 2 GND (power), 3 REF2, 4 NC, 5 OUT, 6 VS (power), 7 REF1, 8 IN+ (hiz)

## J100A
designator J?, comment Connector pad, 110 A  (value not drawn)
footprint J100A
pins: 1 Pin_1

## LD39050PU33R
designator U?, comment IC REG LINEAR 3.3V 500MA 6DFN  (value not drawn)
Manufacturer: STMicroelectronics; Manufacturer Part Number: LD39050PU33R; Max Supply Voltage: 5.5V; Min Input Voltage: 1.5V; Number of Outputs: 1; Input Bias Current: 20uA; Polarity: Positive; Quiescent Current: 50uA; Accuracy: 2%; Output Type: Fixed; Max Supply Current: 200uA; Power Supply Rejection Ratio (PSRR): 62dB; Supplier: Digi-Key; Supplier Part Number: 497-8716-1-ND; RoHS: Yes; Category: Voltage Regulators - Linear; Stock: 27701; Pricing: 1=1.48, 10=1.327, 25=1.2596, 100=1.0347, 250=0.9672, 500=0.85474, 1000=0.6748 (USD); Mounting Technology: Surface Mount; Case/Package: DFN; Pins: 6; Min Operating Temperature: -40°C; Max Operating Temperature: 125°C; Packaging: Tape and Reel; Output Voltage: 3.3V; Max Output current: 500mA; Output Current: 500mA; Number of Regulators: 1; Min Output Voltage: 3.3V; Series: -; Output Configuration: Positive; Radiation Hardening: No; Lead Free: Lead Free; RoHS Compliant: Yes; ComponentLink1URL: https://datasheet.ciiva.com/41441/001186049-da-01-en-ic-reg-ldo-3-3v-ld39050pu33r-vdfn-6-stm-41441150.pdf?src-supplier=Conrad; ComponentLink1Description: https://datasheet.ciiva.com/41441/001186049-da-01-en-ic-reg-ldo-3-3v-ld39050pu33r-vdfn-6-stm-41441150.pdf?src-supplier=Conrad; ComponentLink2URL: https://datasheet.ciiva.com/2043/cd00227527-2043264.pdf?src-supplier=Digi-Key; ComponentLink2Description: https://datasheet.ciiva.com/2043/cd00227527-2043264.pdf?src-supplier=Digi-Key; ComponentLink3URL: https://datasheet.ciiva.com/2043/cd00227527-2043263.pdf?src-supplier=Digi-Key; ComponentLink3Description: https://datasheet.ciiva.com/2043/cd00227527-2043263.pdf?src-supplier=Digi-Key; ComponentLink4URL: https://datasheet.ciiva.com/2043/cd00227527-2043265.pdf?src-supplier=Digi-Key; ComponentLink4Description: https://datasheet.ciiva.com/2043/cd00227527-2043265.pdf?src-supplier=Digi-Key
footprint DFN6D_N (SON, 6-Leads, Body 3x3mm, Pitch 0.95mm, Thermal Pad 2.4x1.65mm, IPC Medium Density)
pins: 1 EN (in), 2 GND (power), 3 PG (oc), 4 VOUT (power), 5 NC, 6 VIN (power), 7 EP (power)

## LM5088QMH-1/NOPB
designator U?, comment Manufacturer Part Number: LM5088QMH-1/NOPB  (hidden comment: IC REG CTRLR BUCK 16TSSOP)
Manufacturer: TI National Semiconductor; Package Body Material: Plastic; Throw Configuration: SWITCHING CONTROLLER; Control Mode: CURRENT-MODE; Control Technique: PULSE WIDTH MODULATION; Max Supply Voltage: 75V; Min Input Voltage: 4.5V; Nominal Supply Voltage: 48V; Channels: 1; Nominal Output Voltage: 7.8V; Package Equivalence Code: TSSOP16,.25; Switcher Configuration: SINGLE; Frequency: 565kHz; Qualification Status: Not Qualified; Supplier: Digi-Key; Supplier Part Number: 296-39764-5-ND; RoHS: Yes; Category: Voltage Regulators - Switching; Stock: 1320; Pricing: 1=5.36, 10=4.815, 25=4.5516, 100=3.9447, 250=3.7424, 500=3.35804, 1000=2.83209, 2500=2.69048 (USD); Case/Package: HTSSOP; Pins: 16; Package Shape: Rectangular; Terminal Finish: Tin; Min Operating Temperature: -40°C; Max Operating Temperature: 125°C; JESD-609 Code: e3; JESD-30 Code: R-PDSO-G16; Moisture Sensitivity Level: 1; Package Style: SMALL OUTLINE, HEAT SINK/SLUG, THIN PROFILE, SHRINK PITCHMeter; Peak Reflow Temperature (Cel): 260°C; Surface Mount: Yes; Terminal Form: Gull Wing; Terminal Position: DUAL; Length: 5mm; Width: 4.4mm; Height - Seated (Max): 1.1mm; Terminal Pitch: 0.65mm; Temperature Grade: AUTOMOTIVE; Reach SVHC Compliant: Yes; RoHS Compliant: Yes; ComponentLink1URL: https://www.ti.com:443/lit/ds/symlink/lm5088-q1.pdf?src-supplier=IHS+Markit; ComponentLink1Description: https://www.ti.com:443/lit/ds/symlink/lm5088-q1.pdf?src-supplier=IHS+Markit; ComponentLink2URL: https://datasheet.ciiva.com/2022/lm5088-2022093.pdf?src-supplier=Digi-Key; ComponentLink2Description: https://datasheet.ciiva.com/2022/lm5088-2022093.pdf?src-supplier=Digi-Key
footprint PWP0016A_M (SOP, 16-Leads, Body 5.1x4.5mm, Pitch 0.65mm, Thermal Pad 3.1x3mm, IPC Low Density)
pins: 1 VIN, 2 EN (in), 3 SS, 4 RAMP, 5 RT/SYNC, 6 GND (power), 7 COMP (power), 8 FB (power), 9 OUT, 10 DITH, 11 CSG (power), 12 CS, 13 SW (power), 14 HG (power), 15 BOOT, 16 VCC (power), 17 EP

## LM5160DNTR
designator U?, comment IC REG BUCK FLYBCK ADJ 12WSON  (value not drawn)
Manufacturer: Texas Instruments; Manufacturer Part Number: LM5160DNTR; Package Body Material: Plastic; Throw Configuration: SWITCHING REGULATOR; Control Technique: PULSE WIDTH MODULATION; Max Supply Voltage: 65V; Min Input Voltage: 4.5V; Nominal Supply Voltage: 24V; Channels: 1; Max Output current: 2.875A; Supplier: Digi-Key; Supplier Part Number: 296-46122-1-ND; RoHS: Yes; Category: Voltage Regulators - Switching; Stock: 3822; Pricing: 1=2.37, 10=2.132, 25=2.0112, 100=1.7134, 250=1.60888, 500=1.40776 (USD); Case/Package: HVSON; Pins: 12; Package Shape: Square; Terminal Finish: Tin; Min Operating Temperature: -40°C; Max Operating Temperature: 125°C; JESD-609 Code: e3; Moisture Sensitivity Level: 1; Package Style: SMALL OUTLINE, HEAT SINK/SLUG, VERY THIN PROFILEMeter; Peak Reflow Temperature (Cel): 260°C; Surface Mount: Yes; Switcher Configuration: BUCK; Terminal Form: No Lead; Terminal Position: DUAL; Length: 4mm; Width: 4mm; Height - Seated (Max): 0.8mm; Terminal Pitch: 0.5mm; Temperature Grade: AUTOMOTIVE; Reach SVHC Compliant: Yes; RoHS Compliant: Yes; ComponentLink1URL: https://www.ti.com:443/lit/ds/symlink/lm5160.pdf?src-supplier=IHS+Markit; ComponentLink1Description: https://www.ti.com:443/lit/ds/symlink/lm5160.pdf?src-supplier=IHS+Markit; ComponentLink2URL: http://www.ti.com/general/docs/suppproductinfo.tsp?distId=10&amp;gotoUrl=http%3A%2F%2Fwww.ti.com%2Flit%2Fgpn%2Flm5160&src-supplier=Digi-Key; ComponentLink2Description: http://www.ti.com/general/docs/suppproductinfo.tsp?distId=10&amp;gotoUrl=http%3A%2F%2Fwww.ti.com%2Flit%2Fgpn%2Flm5160&src-supplier=Digi-Key; ComponentLink3URL: http://www.ti.com/lit/pdf/szzy004?src-supplier=Digi-Key; ComponentLink3Description: http://www.ti.com/lit/pdf/szzy004?src-supplier=Digi-Key; ComponentLink4URL: http://www.ti.com/general/docs/lit/getliterature.tsp?genericPartNumber=LM5160A&&fileType=pdf&src-supplier=Avnet; ComponentLink4Description: http://www.ti.com/general/docs/lit/getliterature.tsp?genericPartNumber=LM5160A&&fileType=pdf&src-supplier=Avnet
footprint SON50P400X400X100-13N
pins: 1 AGND, 2 PGND, 3 VIN, 3 PGND, 4 EN/UVLO, 5 RON, 6 SS, 7 FPWM, 8 FB, 9 VCC, 10 BST, 11 SW_1, 12 SW_2, 13 EP

## LM5164QDDARQ1
designator U?, comment Buck Switching Regulator IC Positive Adjustable 1.2V 1 Output 1A 8-PowerSOIC (0.154", 3.90mm Width)  (value not drawn)
Manufacturer: Texas Instruments; Manufacturer Part Number: LM5164QDDARQ1; Supplier: Digi-Key; Supplier Part Number: 296-LM5164QDDARQ1CT-ND; RoHS: Yes; Category: Voltage Regulators - Switching; Stock: 10636; Pricing: 1=4.55, 10=4.086, 25=3.8632, 100=3.3482, 250=3.17648, 500=2.85024, 1000=2.40381 (USD); Throw Configuration: SWITCHING REGULATOR; Reach SVHC Compliant: Yes; RoHS Compliant: Yes; ComponentLink1URL: https://www.ti.com:443/lit/ds/symlink/lm5164-q1.pdf?src-supplier=IHS+Markit; ComponentLink1Description: https://www.ti.com:443/lit/ds/symlink/lm5164-q1.pdf?src-supplier=IHS+Markit
footprint FP-DDA0008A-IPC_C
pins: 1 GND (power), 2 VIN (power), 3 EN/UVLO, 4 RON (in), 5 FB (in), 6 PGOOD, 7 BST, 8 SW, 9 EP (power)

## LTST-C191KFKT
designator ORANGELED, comment LED ORANGE CLEAR SMD  (value not drawn)
Single Color LED, Orange, Water Clear, 1.1mm; Manufacturer: Vishay Lite-On; Manufacturer Part Number: LTST-C191KFKT; Shape: Rectangular; Forward Current: 30mA; Channels: 1; Viewing Angle: 130°; Forward Voltage: 2.4V; Luminous Intensity-Nom: 90mcd; Reverse Voltage-Max: 5V; Luminous Intensity-Min: 130cd; Overall Height: 0.55mm; Supplier: Digi-Key; Supplier Part Number: 160-1445-1-ND; RoHS: Yes; Category: LEDs; Stock: 231559; Pricing: 1=0.24, 10=0.132, 100=0.0611, 500=0.0564, 1000=0.04418, 2000=0.04324 (USD); Mounting Technology: Surface Mount; Pins: 2; Color: Orange; Color@wavelength: Orange; Terminal Finish: Tin; Min Operating Temperature: -55°C; Max Operating Temperature: 85°C; Lens Style: WATER CLEAR; Optoelectronic Device Type: SINGLE COLOR LED; Packaging: Tape and Reel; JESD-609 Code: e3; Size: 1.1mm; Terminal Pitch: 1.5mm; RoHS Compliant: Yes; Reach SVHC Compliant: Yes; ComponentLink1URL: https://datasheet.ciiva.com:443/pdfs/VipMasterIC/IC/LITE/LITE-S-A0008986816/LITE-S-A0008986933-1.pdf?src-supplier=IHS+Markit; ComponentLink1Description: https://datasheet.ciiva.com:443/pdfs/VipMasterIC/IC/LITE/LITE-S-A0008986816/LITE-S-A0008986933-1.pdf?src-supplier=IHS+Markit; ComponentLink2URL: https://datasheet.ciiva.com/15201/getdatasheetpartid-631075-15201391.pdf?src-supplier=Verical; ComponentLink2Description: https://datasheet.ciiva.com/15201/getdatasheetpartid-631075-15201391.pdf?src-supplier=Verical; ComponentLink3URL: https://datasheet.ciiva.com/2109/ltst-c191kfkt-2109968.pdf?src-supplier=Digi-Key; ComponentLink3Description: https://datasheet.ciiva.com/2109/ltst-c191kfkt-2109968.pdf?src-supplier=Digi-Key; ComponentLink4URL: https://datasheet.ciiva.com/12400/100-ltst-c191kfkt-39904-12400811.pdf?src-supplier=Mouser; ComponentLink4Description: https://datasheet.ciiva.com/12400/100-ltst-c191kfkt-39904-12400811.pdf?src-supplier=Mouser; ComponentLink5URL: https://datasheet.ciiva.com/11775/0900766b80dc02b0-11775613.pdf?src-supplier=Rs; ComponentLink5Description: https://datasheet.ciiva.com/11775/0900766b80dc02b0-11775613.pdf?src-supplier=Rs; ComponentLink6URL: https://datasheet.ciiva.com/2109/s-110-ltst-c191kfkt-2109969.pdf?src-supplier=Digi-Key; ComponentLink6Description: https://datasheet.ciiva.com/2109/s-110-ltst-c191kfkt-2109969.pdf?src-supplier=Digi-Key
footprint FP-LTST-C191KGKT-MFG
pins: 1 C, 2 A